# Altium schematic symbol library T变压器.SchLib: 1 symbol
Pins are listed as number, name and electrical type; pins without a type are passive.

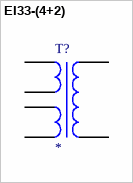
[diagram p0: symbol EI33-(4+2)]

## EI33-(4+2)
designator T?
footprint EI33-(4+2)
pins: 1 6, 2 1, 3 2, 3, 4 5, 5 4